# Altium footprint library 2021-03-02_19-41-42.PcbLib: 1 footprints
Each footprint in its own frame and in the unit in brackets; x right, y up, seen from the top. Pads: shape width x height; smd on the part's side, far side on the other; paste and mask are expansions set on the pad; w line width, h text height; cw(c..) or ccw(c..) is an arc to the next point about the centre after c.
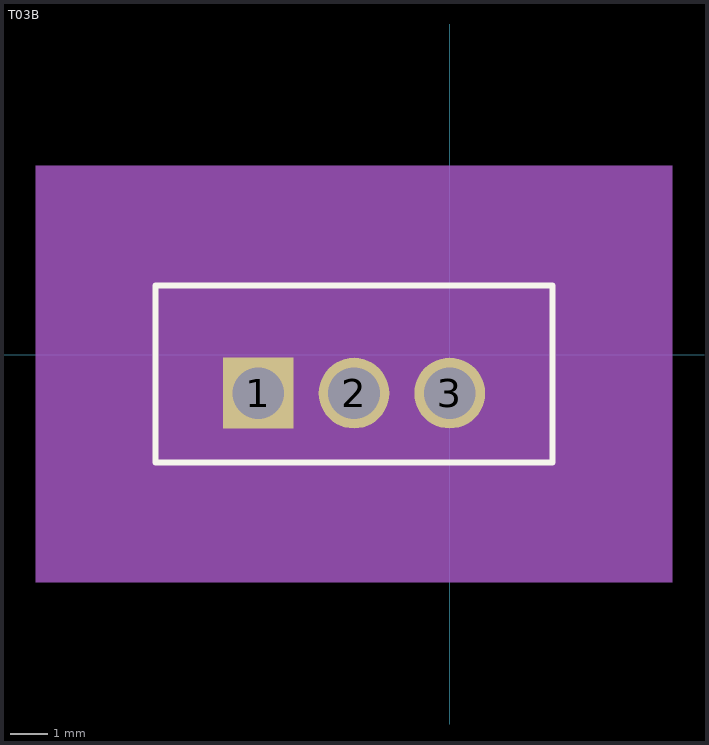
[diagram p0: the footprint, top view; thin cyan lines are the x and y axes]

## T03B [mil]
pads (3):
  rect 74x74 hole 54: 1(-200,-40)
  round 74 hole 54: 2(-100,-40) 3(0,-40)
Top Overlay:
  lines w6: -307.5,-112.5 -307.5,72.5 107.5,72.5 107.5,-112.5 -307.5,-112.5
Mechanical 5:
  region: -432.5,197.5 232.5,197.5 232.5,-237.5 -432.5,-237.5
Mechanical 7:
  lines w1: -372.5,-112.5 -307.5,-112.5 ; -372.5,72.5 -307.5,72.5 ; -307.5,-20 -307.5,137.5 ; -250,-162.5 -200,-162.5 ; -200,-177.5 -200,-40 ; -100,-177.5 -100,-40 ; -50,-162.5 -100,-162.5 ; 107.5,-20 107.5,137.5 ; -357.5,-112.5 -352.5,-102.5 -362.5,-102.5 -357.5,-112.5 ; -357.5,-112.5 -357.5,72.5 ; -357.5,72.5 -352.5,62.5 -362.5,62.5 -357.5,72.5 ; -307.5,122.5 -297.5,117.5 -297.5,127.5 -307.5,122.5 ; -307.5,122.5 107.5,122.5 ; -200,-162.5 -210,-167.5 -210,-157.5 -200,-162.5 ; -100,-162.5 -90,-167.5 -90,-157.5 -100,-162.5 ; 107.5,122.5 97.5,117.5 97.5,127.5 107.5,122.5
  text "Default Padstyle: EX74Y74D54P" at -462.5,-312.5 h50
  text ".1in/2.54mm" at -218.75,-207.5 h25
  text ".185in/4.699mm" at -552.5,-32.5 h25
  text ".415in/10.541mm" at -193.75,142.5 h25
  text "Alt 2 Padstyle: OX90Y60D30P" at -437.5,-537.5 h50
  text "Alt 1 Padstyle: OX60Y90D30P" at -437.5,-462.5 h50
  text "Pin 1 Padstyle: SX74Y74D54P" at -437.5,-387.5 h50
Mechanical 13:
  lines w1: -307.5,-112.5 -307.5,72.5 107.5,72.5 107.5,-112.5 -307.5,-112.5
Mechanical 15:
  region: 117.5,-122.5 -317.5,-122.5 -317.5,82.5 117.5,82.5
  lines w6: -317.5,-122.5 117.5,-122.5 117.5,82.5 -317.5,82.5 -317.5,-122.5
3D body: height 10, standoff 0, extent 0,0 10,10